# EAGLE library part 396_CONN_VH396_8P (library atx4vc)
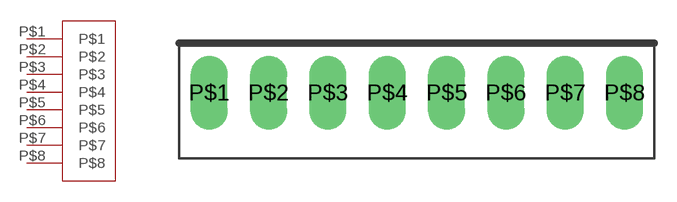
[diagram p0: symbol with the pads of 396_CONN_396_8P; footprint 396_CONN_396_8P]

Designator prefix -

## 396_CONN_VH396_8P  [396_CONN_396_8P]
P$1  P$1
P$2  P$2
P$3  P$3
P$4  P$4
P$5  P$5
P$6  P$6
P$7  P$7
P$8  P$8

## Footprint 396_CONN_396_8P (pad centres in mm)
drill 1.65 long: P$1 -11.88,0; P$2 -7.92,0; P$3 -3.96,0; P$4 0,0; P$5 3.96,0; P$6 7.92,0; P$7 11.88,0; P$8 15.84,0